# Altium schematic symbol library User_lfy.SchLib: 11 symbols
Pins are listed as number, name and electrical type; pins without a type are passive.

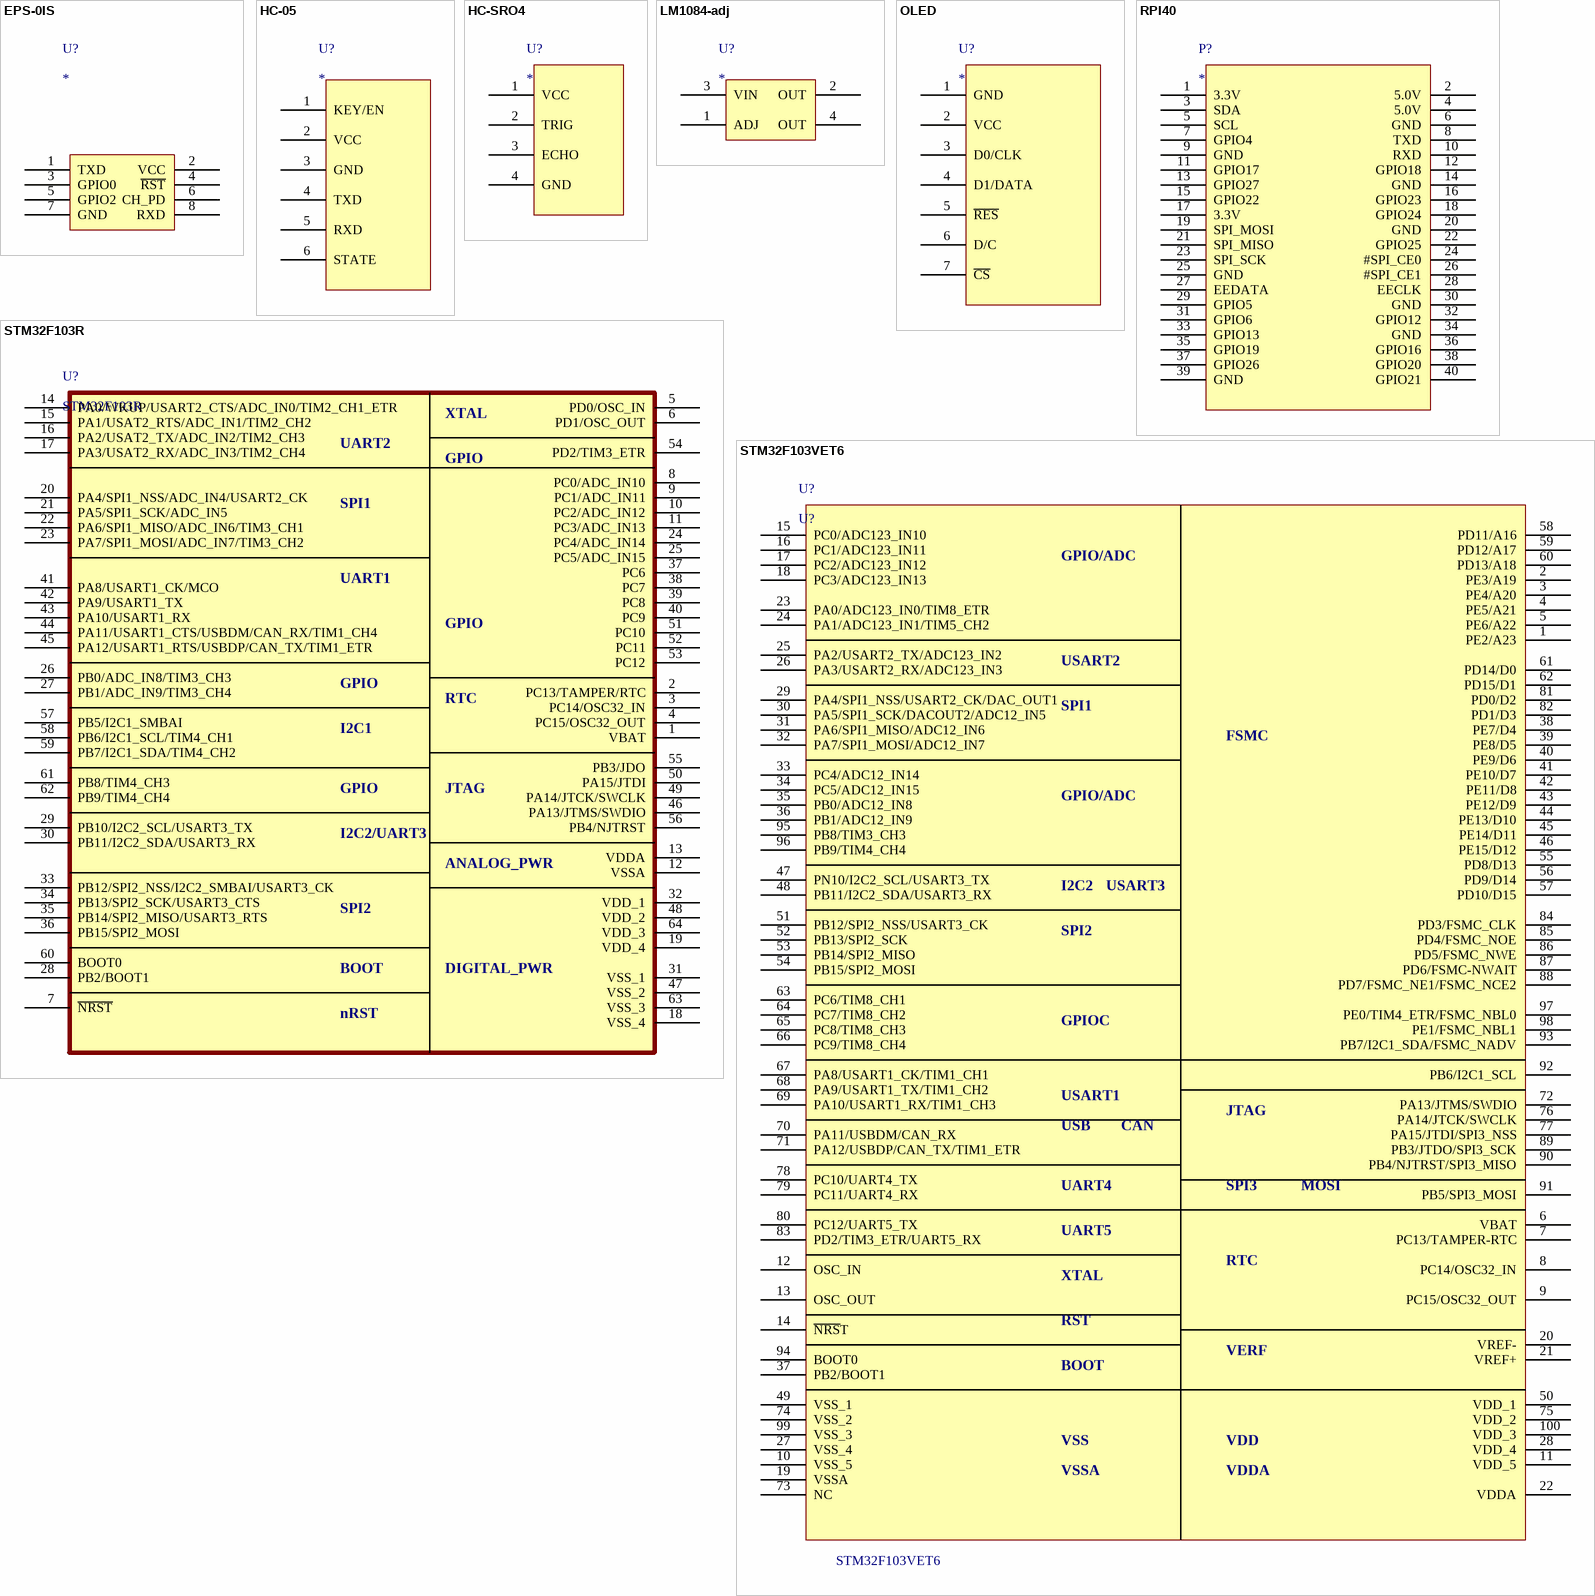
[diagram p0: symbols EPS-0IS to STM32F103VET6]

## EPS-0IS
designator U?
pins: 1 TXD, 2 VCC, 3 GPIO0, 4 ~{RST}, 5 GPIO2, 6 CH_PD, 7 GND, 8 RXD

## HC-05
designator U?
pins: 1 KEY/EN, 2 VCC, 3 GND, 4 TXD, 5 RXD, 6 STATE

## HC-SRO4
designator U?
pins: 1 VCC, 2 TRIG, 3 ECHO, 4 GND

## LM1084-adj
designator U?
pins: 1 ADJ, 2 OUT, 3 VIN, 4 OUT

## OLED
designator U?
pins: 1 GND, 2 VCC, 3 D0/CLK, 4 D1/DATA, 5 ~{RES}, 6 D/C, 7 ~{CS}

## RPI40
designator P?
pins: 1 3.3V, 2 5.0V, 3 SDA, 4 5.0V, 5 SCL, 6 GND, 7 GPIO4, 8 TXD, 9 GND, 10 RXD, 11 GPIO17, 12 GPIO18, 13 GPIO27, 14 GND, 15 GPIO22, 16 GPIO23, 17 3.3V, 18 GPIO24, 19 SPI_MOSI, 20 GND, 21 SPI_MISO, 22 GPIO25, 23 SPI_SCK, 24 #SPI_CE0, 25 GND, 26 #SPI_CE1, 27 EEDATA, 28 EECLK, 29 GPIO5, 30 GND, 31 GPIO6, 32 GPIO12, 33 GPIO13, 34 GND, 35 GPIO19, 36 GPIO16, 37 GPIO26, 38 GPIO20, 39 GND, 40 GPIO21

## STM32F103R
designator U?
pins: 1 VBAT, 2 PC13/TAMPER/RTC, 3 PC14/OSC32_IN, 4 PC15/OSC32_OUT, 5 PD0/OSC_IN, 6 PD1/OSC_OUT, 7 ~{NRST}, 8 PC0/ADC_IN10, 9 PC1/ADC_IN11, 10 PC2/ADC_IN12, 11 PC3/ADC_IN13, 12 VSSA, 13 VDDA, 14 PA0/WKUP/USART2_CTS/ADC_IN0/TIM2_CH1_ETR, 15 PA1/USAT2_RTS/ADC_IN1/TIM2_CH2, 16 PA2/USAT2_TX/ADC_IN2/TIM2_CH3, 17 PA3/USAT2_RX/ADC_IN3/TIM2_CH4, 18 VSS_4, 19 VDD_4, 20 PA4/SPI1_NSS/ADC_IN4/USART2_CK, 21 PA5/SPI1_SCK/ADC_IN5, 22 PA6/SPI1_MISO/ADC_IN6/TIM3_CH1, 23 PA7/SPI1_MOSI/ADC_IN7/TIM3_CH2, 24 PC4/ADC_IN14, 25 PC5/ADC_IN15, 26 PB0/ADC_IN8/TIM3_CH3, 27 PB1/ADC_IN9/TIM3_CH4, 28 PB2/BOOT1, 29 PB10/I2C2_SCL/USART3_TX, 30 PB11/I2C2_SDA/USART3_RX, 31 VSS_1, 32 VDD_1, 33 PB12/SPI2_NSS/I2C2_SMBAI/USART3_CK, 34 PB13/SPI2_SCK/USART3_CTS, 35 PB14/SPI2_MISO/USART3_RTS, 36 PB15/SPI2_MOSI, 37 PC6, 38 PC7, 39 PC8, 40 PC9, 41 PA8/USART1_CK/MCO, 42 PA9/USART1_TX, 43 PA10/USART1_RX, 44 PA11/USART1_CTS/USBDM/CAN_RX/TIM1_CH4, 45 PA12/USART1_RTS/USBDP/CAN_TX/TIM1_ETR, 46 PA13/JTMS/SWDIO, 47 VSS_2, 48 VDD_2, 49 PA14/JTCK/SWCLK, 50 PA15/JTDI, 51 PC10, 52 PC11, 53 PC12, 54 PD2/TIM3_ETR, 55 PB3/JDO, 56 PB4/NJTRST, 57 PB5/I2C1_SMBAI, 58 PB6/I2C1_SCL/TIM4_CH1, 59 PB7/I2C1_SDA/TIM4_CH2, 60 BOOT0, 61 PB8/TIM4_CH3, 62 PB9/TIM4_CH4, 63 VSS_3, 64 VDD_3
text: XTAL; UART2; GPIO; SPI1; UART1; RTC; I2C1; JTAG; I2C2/UART3; ANALOG_PWR; SPI2; BOOT; DIGITAL_PWR; nRST

## STM32F103VET6
designator U?, comment U?
pins: 1 PE2/A23, 2 PE3/A19, 3 PE4/A20, 4 PE5/A21, 5 PE6/A22, 6 VBAT, 7 PC13/TAMPER-RTC, 8 PC14/OSC32_IN, 9 PC15/OSC32_OUT, 10 VSS_5, 11 VDD_5, 12 OSC_IN, 13 OSC_OUT, 14 ~{NRS}T, 15 PC0/ADC123_IN10, 16 PC1/ADC123_IN11, 17 PC2/ADC123_IN12, 18 PC3/ADC123_IN13, 19 VSSA, 20 VREF-, 21 VREF+, 22 VDDA, 23 PA0/ADC123_IN0/TIM8_ETR, 24 PA1/ADC123_IN1/TIM5_CH2, 25 PA2/USART2_TX/ADC123_IN2, 26 PA3/USART2_RX/ADC123_IN3, 27 VSS_4, 28 VDD_4, 29 PA4/SPI1_NSS/USART2_CK/DAC_OUT1, 30 PA5/SPI1_SCK/DACOUT2/ADC12_IN5, 31 PA6/SPI1_MISO/ADC12_IN6, 32 PA7/SPI1_MOSI/ADC12_IN7, 33 PC4/ADC12_IN14, 34 PC5/ADC12_IN15, 35 PB0/ADC12_IN8, 36 PB1/ADC12_IN9, 37 PB2/BOOT1, 38 PE7/D4, 39 PE8/D5, 40 PE9/D6, 41 PE10/D7, 42 PE11/D8, 43 PE12/D9, 44 PE13/D10, 45 PE14/D11, 46 PE15/D12, 47 PN10/I2C2_SCL/USART3_TX, 48 PB11/I2C2_SDA/USART3_RX, 49 VSS_1, 50 VDD_1, 51 PB12/SPI2_NSS/USART3_CK, 52 PB13/SPI2_SCK, 53 PB14/SPI2_MISO, 54 PB15/SPI2_MOSI, 55 PD8/D13, 56 PD9/D14, 57 PD10/D15, 58 PD11/A16, 59 PD12/A17, 60 PD13/A18, 61 PD14/D0, 62 PD15/D1, 63 PC6/TIM8_CH1, 64 PC7/TIM8_CH2, 65 PC8/TIM8_CH3, 66 PC9/TIM8_CH4, 67 PA8/USART1_CK/TIM1_CH1, 68 PA9/USART1_TX/TIM1_CH2, 69 PA10/USART1_RX/TIM1_CH3, 70 PA11/USBDM/CAN_RX, 71 PA12/USBDP/CAN_TX/TIM1_ETR, 72 PA13/JTMS/SWDIO, 73 NC, 74 VSS_2, 75 VDD_2, 76 PA14/JTCK/SWCLK, 77 PA15/JTDI/SPI3_NSS, 78 PC10/UART4_TX, 79 PC11/UART4_RX, 80 PC12/UART5_TX, 81 PD0/D2, 82 PD1/D3, 83 PD2/TIM3_ETR/UART5_RX, 84 PD3/FSMC_CLK, 85 PD4/FSMC_NOE, 86 PD5/FSMC_NWE, 87 PD6/FSMC-NWAIT, 88 PD7/FSMC_NE1/FSMC_NCE2, 89 PB3/JTDO/SPI3_SCK, 90 PB4/NJTRST/SPI3_MISO, 91 PB5/SPI3_MOSI, 92 PB6/I2C1_SCL, 93 PB7/I2C1_SDA/FSMC_NADV, 94 BOOT0, 95 PB8/TIM3_CH3, 96 PB9/TIM4_CH4, 97 PE0/TIM4_ETR/FSMC_NBL0, 98 PE1/FSMC_NBL1, 99 VSS_3, 100 VDD_3
text: GPIO/ADC; USART2; SPI1; FSMC; I2C2; USART3; SPI2; GPIOC; USART1; JTAG; USB; CAN; UART4; SPI3; MOSI; UART5; RTC; XTAL; RST; VERF; BOOT; VSS; VDD

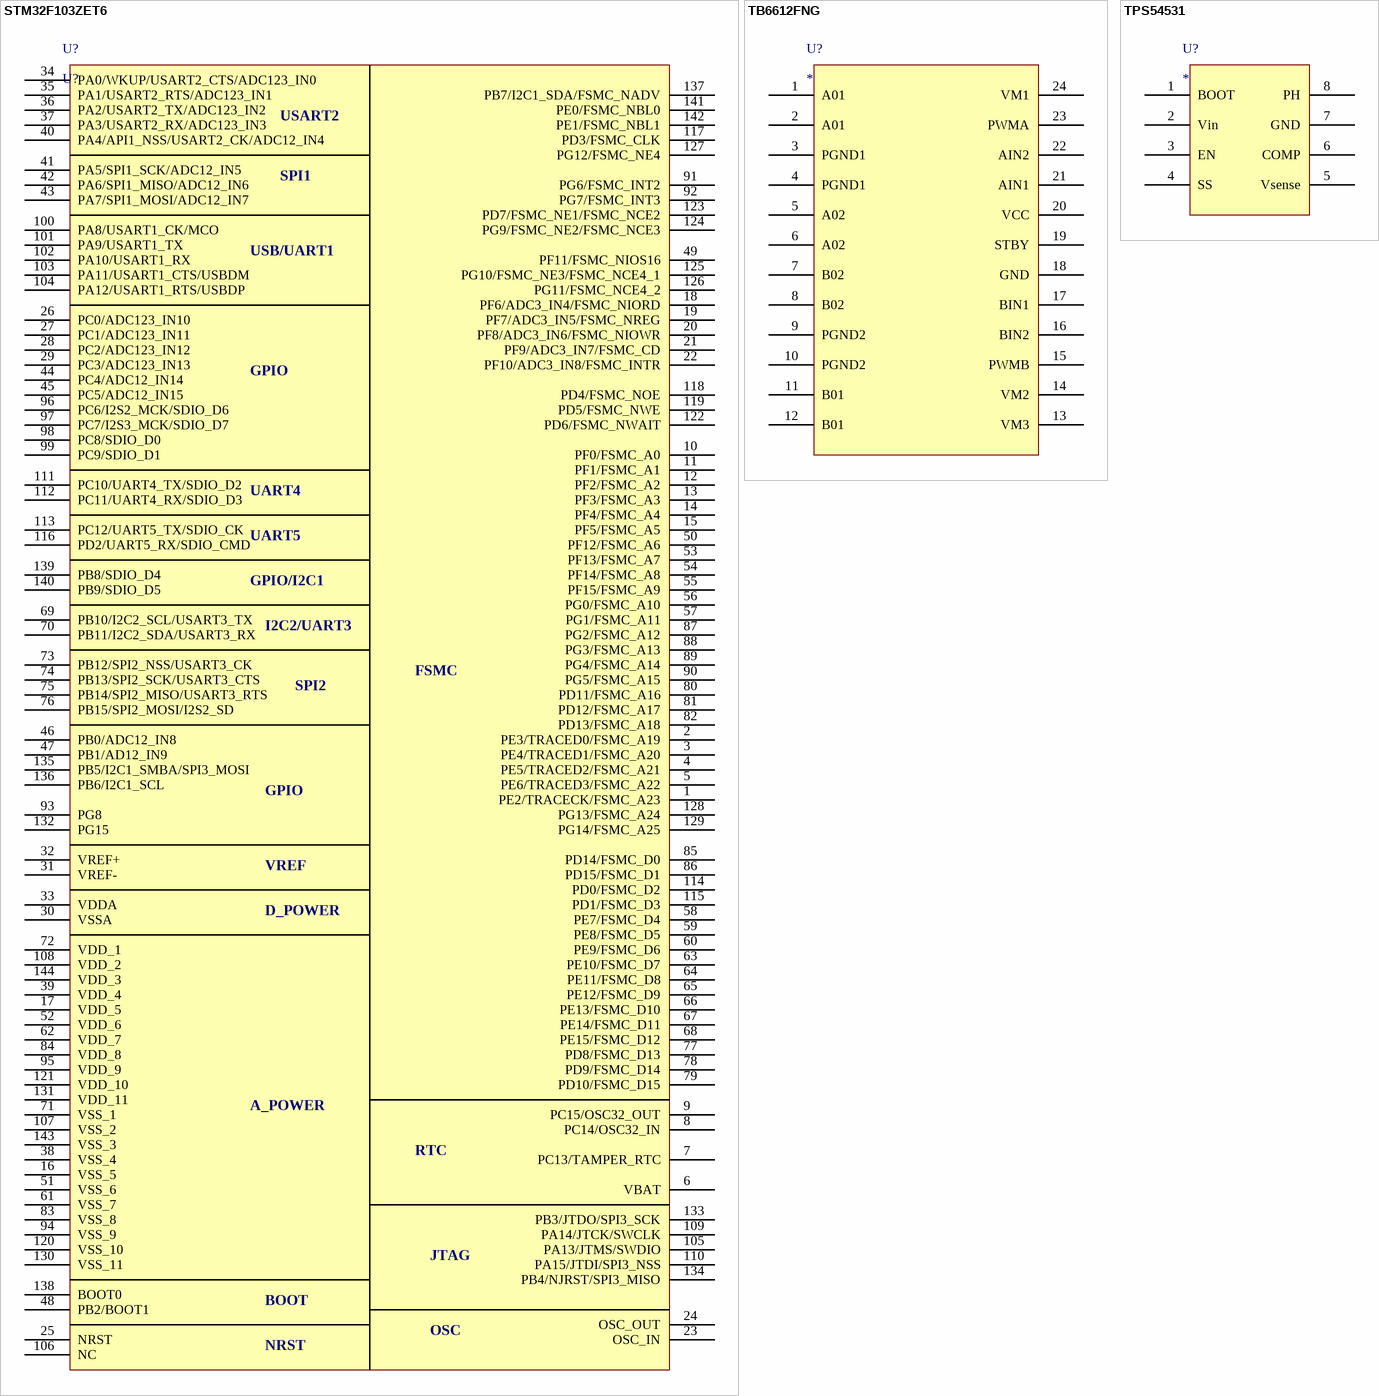
[diagram p1: symbols STM32F103ZET6 to TPS54531]

## STM32F103ZET6
designator U?, comment U?
pins: 1 PE2/TRACECK/FSMC_A23, 2 PE3/TRACED0/FSMC_A19, 3 PE4/TRACED1/FSMC_A20, 4 PE5/TRACED2/FSMC_A21, 5 PE6/TRACED3/FSMC_A22, 6 VBAT, 7 PC13/TAMPER_RTC, 8 PC14/OSC32_IN, 9 PC15/OSC32_OUT, 10 PF0/FSMC_A0, 11 PF1/FSMC_A1, 12 PF2/FSMC_A2, 13 PF3/FSMC_A3, 14 PF4/FSMC_A4, 15 PF5/FSMC_A5, 16 VSS_5, 17 VDD_5, 18 PF6/ADC3_IN4/FSMC_NIORD, 19 PF7/ADC3_IN5/FSMC_NREG, 20 PF8/ADC3_IN6/FSMC_NIOWR, 21 PF9/ADC3_IN7/FSMC_CD, 22 PF10/ADC3_IN8/FSMC_INTR, 23 OSC_IN, 24 OSC_OUT, 25 NRST, 26 PC0/ADC123_IN10, 27 PC1/ADC123_IN11, 28 PC2/ADC123_IN12, 29 PC3/ADC123_IN13, 30 VSSA, 31 VREF-, 32 VREF+, 33 VDDA, 34 PA0/WKUP/USART2_CTS/ADC123_IN0, 35 PA1/USART2_RTS/ADC123_IN1, 36 PA2/USART2_TX/ADC123_IN2, 37 PA3/USART2_RX/ADC123_IN3, 38 VSS_4, 39 VDD_4, 40 PA4/API1_NSS/USART2_CK/ADC12_IN4, 41 PA5/SPI1_SCK/ADC12_IN5, 42 PA6/SPI1_MISO/ADC12_IN6, 43 PA7/SPI1_MOSI/ADC12_IN7, 44 PC4/ADC12_IN14, 45 PC5/ADC12_IN15, 46 PB0/ADC12_IN8, 47 PB1/AD12_IN9, 48 PB2/BOOT1, 49 PF11/FSMC_NIOS16, 50 PF12/FSMC_A6, 51 VSS_6, 52 VDD_6, 53 PF13/FSMC_A7, 54 PF14/FSMC_A8, 55 PF15/FSMC_A9, 56 PG0/FSMC_A10, 57 PG1/FSMC_A11, 58 PE7/FSMC_D4, 59 PE8/FSMC_D5, 60 PE9/FSMC_D6, 61 VSS_7, 62 VDD_7, 63 PE10/FSMC_D7, 64 PE11/FSMC_D8, 65 PE12/FSMC_D9, 66 PE13/FSMC_D10, 67 PE14/FSMC_D11, 68 PE15/FSMC_D12, 69 PB10/I2C2_SCL/USART3_TX, 70 PB11/I2C2_SDA/USART3_RX, 71 VSS_1, 72 VDD_1, 73 PB12/SPI2_NSS/USART3_CK, 74 PB13/SPI2_SCK/USART3_CTS, 75 PB14/SPI2_MISO/USART3_RTS, 76 PB15/SPI2_MOSI/I2S2_SD, 77 PD8/FSMC_D13, 78 PD9/FSMC_D14, 79 PD10/FSMC_D15, 80 PD11/FSMC_A16, 81 PD12/FSMC_A17, 82 PD13/FSMC_A18, 83 VSS_8, 84 VDD_8, 85 PD14/FSMC_D0, 86 PD15/FSMC_D1, 87 PG2/FSMC_A12, 88 PG3/FSMC_A13, 89 PG4/FSMC_A14, 90 PG5/FSMC_A15, 91 PG6/FSMC_INT2, 92 PG7/FSMC_INT3, 93 PG8, 94 VSS_9, 95 VDD_9, 96 PC6/I2S2_MCK/SDIO_D6, 97 PC7/I2S3_MCK/SDIO_D7, 98 PC8/SDIO_D0, 99 PC9/SDIO_D1, 100 PA8/USART1_CK/MCO, 101 PA9/USART1_TX, 102 PA10/USART1_RX, 103 PA11/USART1_CTS/USBDM, 104 PA12/USART1_RTS/USBDP, 105 PA13/JTMS/SWDIO, 106 NC, 107 VSS_2, 108 VDD_2, 109 PA14/JTCK/SWCLK, 110 PA15/JTDI/SPI3_NSS, 111 PC10/UART4_TX/SDIO_D2, 112 PC11/UART4_RX/SDIO_D3, 113 PC12/UART5_TX/SDIO_CK, 114 PD0/FSMC_D2, 115 PD1/FSMC_D3, 116 PD2/UART5_RX/SDIO_CMD, 117 PD3/FSMC_CLK, 118 PD4/FSMC_NOE, 119 PD5/FSMC_NWE, 120 VSS_10, 121 VDD_10, 122 PD6/FSMC_NWAIT, 123 PD7/FSMC_NE1/FSMC_NCE2, 124 PG9/FSMC_NE2/FSMC_NCE3, 125 PG10/FSMC_NE3/FSMC_NCE4_1, 126 PG11/FSMC_NCE4_2, 127 PG12/FSMC_NE4, 128 PG13/FSMC_A24, 129 PG14/FSMC_A25, 130 VSS_11, 131 VDD_11, 132 PG15, 133 PB3/JTDO/SPI3_SCK, 134 PB4/NJRST/SPI3_MISO, 135 PB5/I2C1_SMBA/SPI3_MOSI, 136 PB6/I2C1_SCL, 137 PB7/I2C1_SDA/FSMC_NADV, 138 BOOT0, 139 PB8/SDIO_D4, 140 PB9/SDIO_D5, 141 PE0/FSMC_NBL0, 142 PE1/FSMC_NBL1, 143 VSS_3, 144 VDD_3
text: USART2; SPI1; USB/UART1; GPIO; UART4; UART5; GPIO/I2C1; I2C2/UART3; FSMC; SPI2; VREF; D_POWER; A_POWER; RTC; JTAG; BOOT; OSC

## TB6612FNG
designator U?
pins: 1 A01, 2 A01, 3 PGND1, 4 PGND1, 5 A02, 6 A02, 7 B02, 8 B02, 9 PGND2, 10 PGND2, 11 B01, 12 B01, 13 VM3, 14 VM2, 15 PWMB, 16 BIN2, 17 BIN1, 18 GND, 19 STBY, 20 VCC, 21 AIN1, 22 AIN2, 23 PWMA, 24 VM1

## TPS54531
designator U?
pins: 1 BOOT, 2 Vin, 3 EN, 4 SS, 5 Vsense, 6 COMP, 7 GND, 8 PH